# Altium schematic symbol library MC33035.SchLib: 1 symbol
Pins are listed as number, name and electrical type; pins without a type are passive.

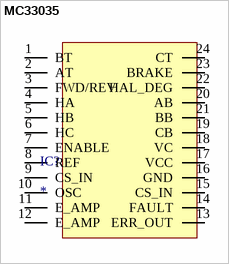
[diagram p0: symbol MC33035]

## MC33035
designator IC?
footprint PCBComponent_1
pins: 1 BT, 2 AT, 3 FWD/REV, 4 HA, 5 HB, 6 HC, 7 ENABLE, 8 REF, 9 CS_IN, 10 OSC, 11 E_AMP, 12 E_AMP, 13 ERR_OUT, 14 FAULT, 15 CS_IN, 16 GND, 17 VCC, 18 VC, 19 CB, 20 AB, 21 BB, 22 HAL_DEG, 23 BRAKE, 24 CT